# Altium footprint library Terminal_Blocks_Rising Case Clamp PCB_5.08mm.PcbLib: 4 footprints
Each footprint in its own frame and in the unit in brackets; x right, y up, seen from the top. Pads: shape width x height; smd on the part's side, far side on the other; paste and mask are expansions set on the pad; w line width, h text height; cw(c..) or ccw(c..) is an arc to the next point about the centre after c.
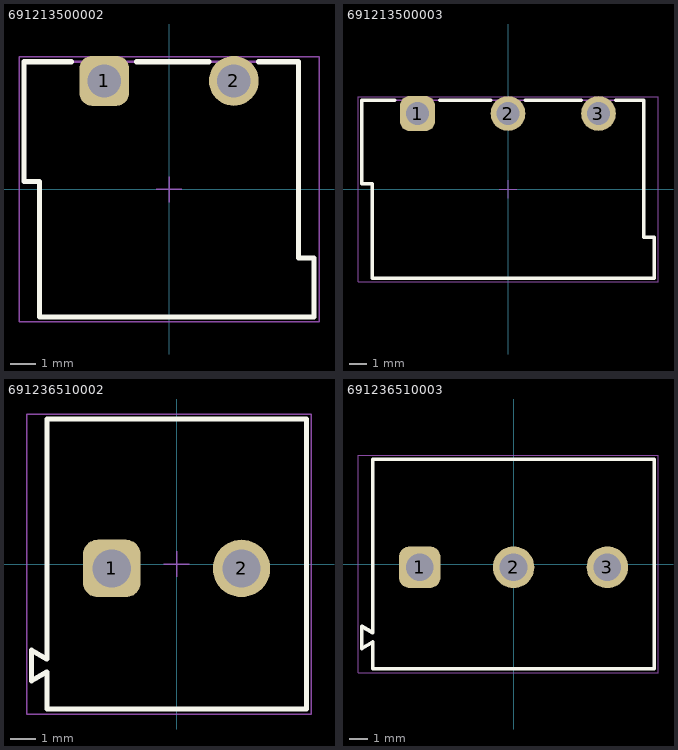
[diagram p0: the footprints below, top view; thin cyan lines are the x and y axes]

## 691213500002 [mm] "Serie 2135 - 5.08 mm _ 2 pins"
height 8.1
pads (2):
  rrect50% 1.95x1.95 hole 1.3: 1(-2.54,4.25)
  round 1.95 hole 1.3: 2(2.54,4.25)
Top Overlay:
  lines w0.2: -3.83,5 -5.68,5 -5.68,0.3 -5.08,0.3 -5.08,-5 5.68,-5 5.68,-2.7 5.08,-2.7 5.08,5 3.51,5 ; -1.28,5 1.57,5
Top Designator:
  text ".Designator" at -7.498,-0.5 h1.5
Top Component Outline:
  lines w0.1: -5.68,0.3 -5.68,5 5.08,5 5.08,-2.7 5.68,-2.7 5.68,-5 -5.08,-5 -5.08,0.3 -5.68,0.3
Top 3D Body:
  lines w0.1: -5.68,0.3 -5.08,0.3 -5.08,-5 5.68,-5 5.68,-2.7 5.08,-2.7 5.08,5 -5.68,5 -5.68,0.3
Top Courtyard:
  lines w0.05: -5.88,-5.2 5.88,-5.2 5.88,5.2 -5.88,5.2 -5.88,-5.2
Top Component Center:
  lines w0.05: -0.5,0 0.5,0 ; 0,-0.5 0,0.5
3D body "691213500002.stp": height 8.15, standoff -3.45, extent -5.68,-5 5.68,5

## 691213500003 [mm] "Serie 2135 - 5.08 mm_ 3 pins"
height 8.1
pads (3):
  rrect50% 1.95x1.95 hole 1.3: 1(-5.08,4.25)
  round 1.95 hole 1.3: 2(0,4.25) 3(5.08,4.25)
Top Overlay:
  lines w0.2: -6.37,5 -8.22,5 -8.22,0.3 -7.62,0.3 -7.62,-5 8.22,-5 8.22,-2.7 7.62,-2.7 7.62,5 6.05,5 ; -3.82,5 -0.97,5 ; 0.97,5 4.1,5
Top Designator:
  text ".Designator" at -7.498,-0.5 h1.5
Top Component Outline:
  lines w0.1: -8.22,0.3 -8.22,5 7.62,5 7.62,-2.7 8.22,-2.7 8.22,-5 -7.62,-5 -7.62,0.3 -8.22,0.3
Top 3D Body:
  lines w0.1: -8.22,0.3 -7.62,0.3 -7.62,-5 8.22,-5 8.22,-2.7 7.62,-2.7 7.62,5 -8.22,5 -8.22,0.3
Top Courtyard:
  lines w0.05: -8.42,-5.2 8.42,-5.2 8.42,5.2 -8.42,5.2 -8.42,-5.2
Top Component Center:
  lines w0.05: -0.5,0 0.5,0 ; 0,-0.5 0,0.5
3D body "691213500003.stp": height 8.15, standoff -3.45, extent -8.22,-5 8.22,5

## 691236510002 [mm] "Horizontal Cable Entry with Rising Cage Clamp, pitch 5.08mm, 02p"
height 18
pads (2):
  rrect50% 2.25x2.25 hole 1.5: 1(-2.54,-0.175)
  round 2.25 hole 1.5: 2(2.54,-0.175)
Top Overlay:
  lines w0.2: -5.081,-4.223 -5.68,-4.575 -5.68,-3.375 -5.081,-3.727 ; -5.08,-4.225 -5.08,-5.675 5.08,-5.675 5.08,5.675 -5.08,5.675 -5.08,-3.726
Top Designator:
  text ".Designator" at -7.498,-0.5 h1.5
Top Component Outline:
  lines w0.1: -5.081,-4.223 -5.68,-4.575 -5.68,-3.375 -5.081,-3.727 ; -5.08,-4.225 -5.08,-5.675 5.08,-5.675 5.08,5.675 -5.08,5.675 -5.08,-3.726
Top 3D Body:
  lines w0.1: -5.081,-4.223 -5.68,-4.575 -5.68,-3.375 -5.081,-3.727 ; -5.08,-4.225 -5.08,-5.675 5.08,-5.675 5.08,5.675 -5.08,5.675 -5.08,-3.726
Top Courtyard:
  lines w0.05: -5.88,-5.875 5.28,-5.875 5.28,5.875 -5.88,5.875 -5.88,-5.875
Top Component Center:
  lines w0.05: -0.5,0 0.5,0 ; 0,-0.5 0,0.5
3D body "691236510002.stp": height 18.1, standoff -3.9, extent -5.68,-5.675 5.08,5.675

## 691236510003 [mm] "Horizontal Cable Entry with Rising Cage Clamp, pitch 5.08mm, 03p"
height 18
pads (3):
  rrect50% 2.25x2.25 hole 1.5: 1(-5.08,-0.175)
  round 2.25 hole 1.5: 2(0,-0.175) 3(5.08,-0.175)
Top Overlay:
  lines w0.2: -7.621,-4.223 -8.22,-4.575 -8.22,-3.375 -7.621,-3.727 ; -7.62,-4.225 -7.62,-5.675 7.62,-5.675 7.62,5.675 -7.62,5.675 -7.62,-3.726
Top Designator:
  text ".Designator" at -7.498,-0.5 h1.5
Top Component Outline:
  lines w0.1: -7.621,-4.223 -8.22,-4.575 -8.22,-3.375 -7.621,-3.727 ; -7.62,-4.225 -7.62,-5.675 7.62,-5.675 7.62,5.675 -7.62,5.675 -7.62,-3.726
Top 3D Body:
  lines w0.1: -7.621,-4.223 -8.22,-4.575 -8.22,-3.375 -7.621,-3.727 ; -7.62,-4.225 -7.62,-5.675 7.62,-5.675 7.62,5.675 -7.62,5.675 -7.62,-3.726
Top Courtyard:
  lines w0.05: -8.42,-5.875 7.82,-5.875 7.82,5.875 -8.42,5.875 -8.42,-5.875
Top Component Center:
  lines w0.05: -0.5,0 0.5,0 ; 0,-0.5 0,0.5
3D body "691236510003.stp": height 18.1, standoff -3.9, extent -8.22,-5.675 7.62,5.675